# Altium schematic symbol library BU01.SchLib: 1 symbol
Pins are listed as number, name and electrical type; pins without a type are passive.

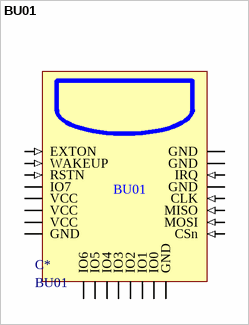
[diagram p0: symbol BU01]

## BU01
designator C*
footprint BU01
pins: 1 EXTON (in), 2 WAKEUP (in), 3 RSTN (in), 4 IO7 (io), 5 VCC (power), 6 VCC (power), 7 VCC (power), 8 GND (power), 9 IO6 (io), 10 IO5 (io), 11 IO4 (io), 12 IO3 (io), 13 IO2 (io), 14 IO1 (io), 15 IO0 (io), 16 GND (power), 17 CSn (in), 18 MOSI (in), 19 MISO (in), 20 CLK (in), 21 GND, 22 IRQ (in), 23 GND, 24 GND